# EAGLE library part TYCO-174053 (library connector)
TYCO multilock 16-pin connector (2.54 pin spacing)
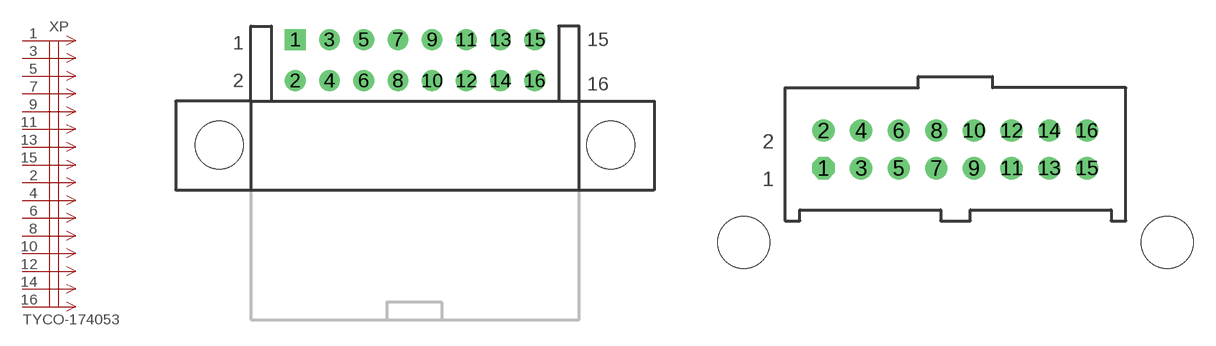
[diagram p1: symbol with the pads of TYCO-174053; footprints TYCO-174053, TYCO-174053(2.54)]

Designator prefix XP

## TYCO-174053  [TYCO-174053]
1  1  pas
2  9  pas
3  2  pas
4  10  pas
5  3  pas
6  11  pas
7  4  pas
8  12  pas
9  5  pas
10  13  pas
11  6  pas
12  14  pas
13  7  pas
14  15  pas
15  8  pas
16  16  pas

## TYCO-174053(2.54)  [TYCO-174053(2.54)]
1  1  pas
2  2  pas
3  3  pas
4  4  pas
5  5  pas
6  6  pas
7  7  pas
8  8  pas
9  9  pas
10  10  pas
11  11  pas
12  12  pas
13  13  pas
14  14  pas
15  15  pas
16  16  pas

## Footprint TYCO-174053 (pad centres in mm)
drill 1 square: 1 5.55,7.7
drill 1: 2 5.55,4.7; 3 8.05,7.7; 4 8.05,4.7; 5 10.55,7.7; 6 10.55,4.7; 7 13.05,7.7; 8 13.05,4.7; 9 15.55,7.7; 10 15.55,4.7; 11 18.05,7.7; 12 18.05,4.7; 13 20.55,7.7; 14 20.55,4.7; 15 23.05,7.7; 16 23.05,4.7
hole 3.5 at 0,0
hole 3.5 at 28.6,0

## Footprint TYCO-174053(2.54) (pad centres in mm)
drill 1 octagon: 1 5.385,5.029
drill 1: 2 5.385,7.569; 3 7.925,5.029; 4 7.925,7.569; 5 10.465,5.029; 6 10.465,7.569; 7 13.005,5.029; 8 13.005,7.569; 9 15.545,5.029; 10 15.545,7.569; 11 18.085,5.029; 12 18.085,7.569; 13 20.625,5.029; 14 20.625,7.569; 15 23.165,5.029; 16 23.165,7.569
hole 3.5 at 0,0
hole 3.5 at 28.6,0